# Altium schematic symbol library Trans_ETD34.SchLib: 1 symbol
Pins are listed as number, name and electrical type; pins without a type are passive.

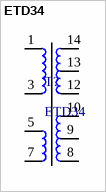
[diagram p0: symbol ETD34]

## ETD34
designator T?
footprint Transformer_ETD34
pins: 1, 3, 5, 7, 8, 9, 10, 12, 13, 14